# Altium footprint library MPT-06-01-XX-X-RA-SD.PcbLib: 2 footprints
Each footprint in its own frame and in the unit in brackets; x right, y up, seen from the top. Pads: shape width x height; smd on the part's side, far side on the other; paste and mask are expansions set on the pad; w line width, h text height; cw(c..) or ccw(c..) is an arc to the next point about the centre after c.
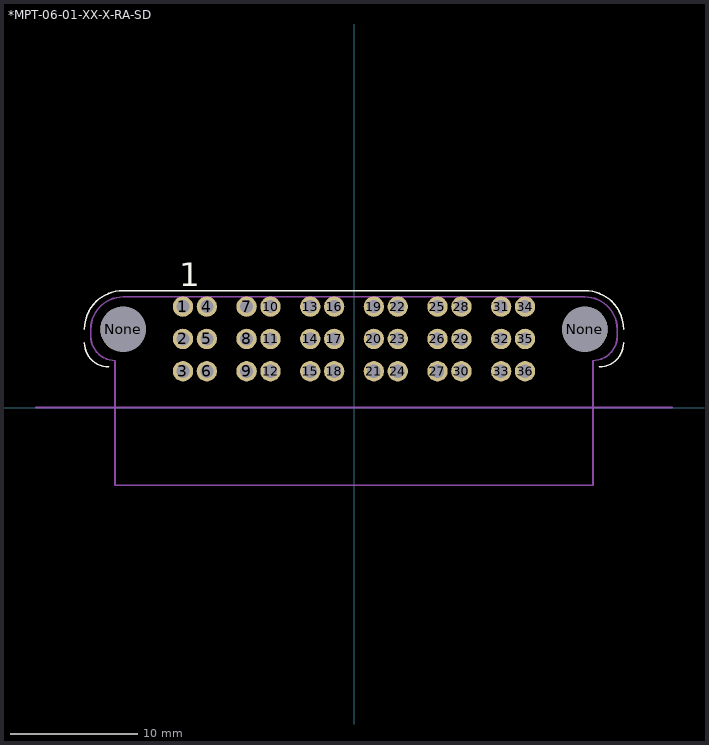
[diagram p0: the footprints below, top view; thin cyan lines are the x and y axes]

## *MPT-06-01-XX-X-RA-SD [mm]
pads (38):
  round 1.6 hole 1.04: 1(-13.44,7.93) 2(-13.44,5.39) 3(-13.44,2.85) 4(-11.56,7.93) 5(-11.56,5.39) 6(-11.56,2.85) 7(-8.44,7.93) 8(-8.44,5.39) 9(-8.44,2.85) 10(-6.56,7.93) 11(-6.56,5.39) 12(-6.56,2.85) 13(-3.44,7.93) 14(-3.44,5.39) 15(-3.44,2.85) 16(-1.56,7.93) 17(-1.56,5.39) 18(-1.56,2.85) 19(1.56,7.93) 20(1.56,5.39) 21(1.56,2.85) 22(3.44,7.93) 23(3.44,5.39) 24(3.44,2.85) 25(6.56,7.93) 26(6.56,5.39) 27(6.56,2.85) 28(8.44,7.93) 29(8.44,5.39) 30(8.44,2.85) 31(11.56,7.93) 32(11.56,5.39) 33(11.56,2.85) 34(13.44,7.93) 35(13.44,5.39) 36(13.44,2.85)
  round 3.56 hole 3.56 unplated: None(-18.14,6.15) None(18.14,6.15)
Top Overlay:
  lines w0.127: -21.18,5.095 ccw(c-19.275,5.095) -19.275,3.19 ; -21.18,6.15 cw(c-18.14,6.15) -18.14,9.19 18.14,9.19 cw(c18.14,6.15) 21.18,6.15 ; 19.275,3.19 ccw(c19.275,5.095) 21.18,5.095
  text "1" at -13.724,9.513 h1.88
Mechanical 13:
  lines w0.127: -20.68,5.595 ccw(c-18.775,5.595) -18.775,3.69 ; -20.68,5.595 ccw(c-18.775,5.595) -18.775,3.69 ; -20.68,5.595 -20.68,6.15 ; -20.68,5.595 -20.68,6.15 ; -20.68,6.15 cw(c-18.14,6.15) -18.14,8.69 ; -20.68,6.15 cw(c-18.14,6.15) -18.14,8.69 ; -18.775,-6.12 18.775,-6.12 ; -18.775,-6.12 -18.775,3.69 ; -18.775,-6.12 18.775,-6.12 ; -18.775,-6.12 -18.775,3.69 ; -18.14,8.69 18.14,8.69 ; -18.14,8.69 18.14,8.69 ; 18.14,8.69 cw(c18.14,6.15) 20.68,6.15 ; 18.14,8.69 cw(c18.14,6.15) 20.68,6.15 ; 18.775,-6.12 18.775,3.69 ; 18.775,-6.12 18.775,3.69 ; 18.775,3.69 ccw(c18.775,5.595) 20.68,5.595 ; 18.775,3.69 ccw(c18.775,5.595) 20.68,5.595 ; 20.68,5.595 20.68,6.15 ; 20.68,5.595 20.68,6.15 ; -25,0 25,0 -25,0

## PCBComponent_1 [mm]